# Altium footprint library IC-Packages.PcbLib: 8 footprints
Each footprint in its own frame and in the unit in brackets; x right, y up, seen from the top. Pads: shape width x height; smd on the part's side, far side on the other; paste and mask are expansions set on the pad; w line width, h text height; cw(c..) or ccw(c..) is an arc to the next point about the centre after c.
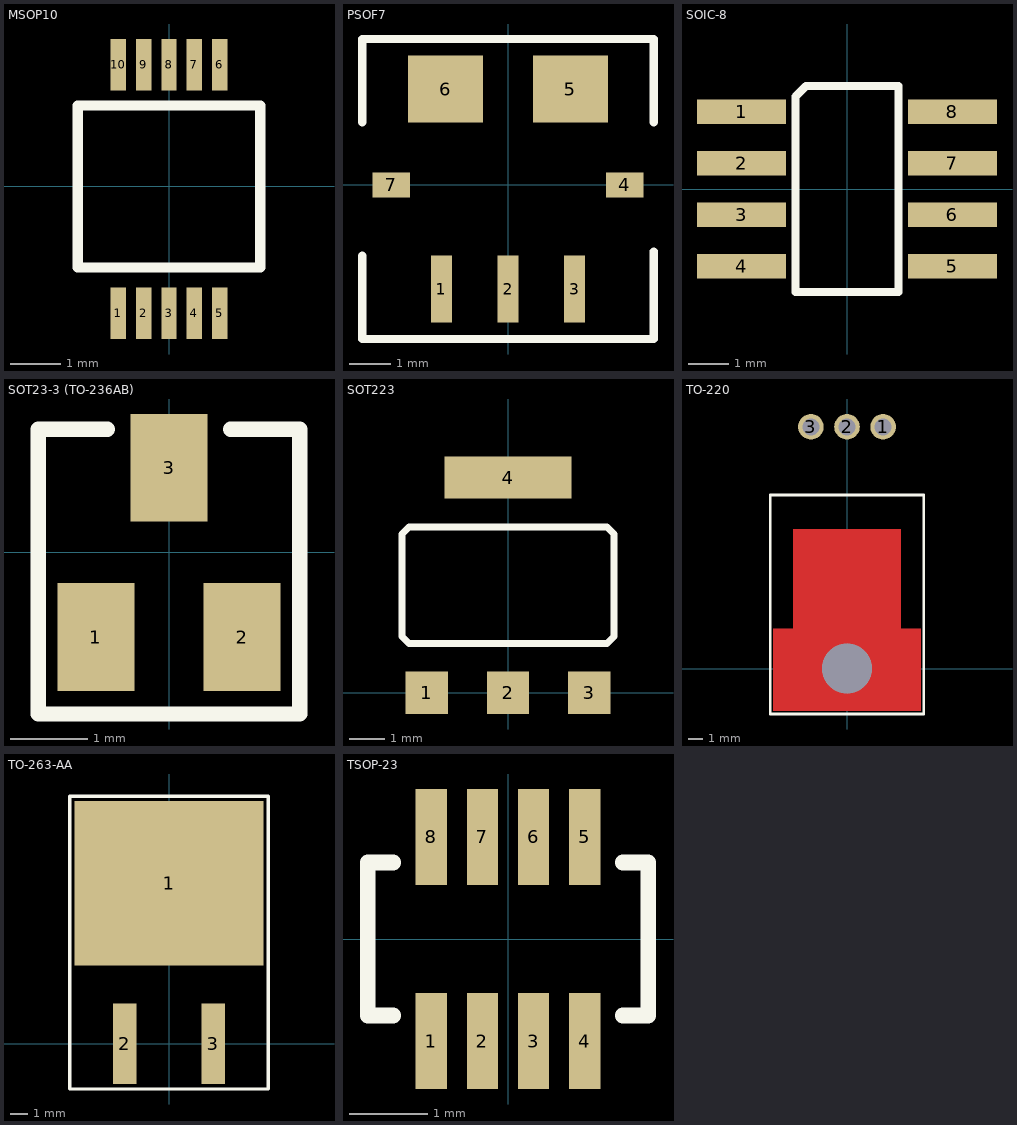
[diagram p0: the footprints below, top view; thin cyan lines are the x and y axes]

## MSOP10 [mm] "MSOP 10 Pin Package"
pads (10):
  rect 0.3x1.02 smd: 1(-1,-2.5) 2(-0.5,-2.5) 3(0,-2.5) 4(0.5,-2.5) 5(1,-2.5) 6(1,2.4) 7(0.5,2.4) 8(0,2.4) 9(-0.5,2.4) 10(-1,2.4)
Top Overlay:
  lines w0.2: -1.8,-1.6 1.8,-1.6 1.8,1.6 -1.8,1.6 -1.8,-1.6
  text "." at -1.4,-1.2 h1.52
3D body "MSOP10.stp": height 1.05, standoff 0, extent -1.55,-2.525 1.55,2.525

## PSOF7 [mm] "7-Pin PSOF Package"
pads (7):
  rect 0.5x1.6 smd: 1(-1.6,-2.5) 2(0,-2.5) 3(1.6,-2.5)
  rect 0.9x0.6 smd: 4(2.8,0) 7(-2.8,0)
  rect 1.8x1.6 smd: 5(1.5,2.3) 6(-1.5,2.3)
Top Overlay:
  lines w0.2: -3.5,-1.7 -3.5,-3.7 3.5,-3.7 3.5,-1.6 ; -3.5,1.5 -3.5,3.5 3.5,3.5 3.5,1.5
3D body: height 1.5, standoff 0, extent -3.2,-2.4 3.2,2.4

## SOIC-8 [mm] "SOIC-8 Package"
pads (8):
  rect 2.2x0.6 smd: 1(-2.6,1.905) 2(-2.6,0.635) 3(-2.6,-0.635) 4(-2.6,-1.905) 5(2.6,-1.905) 6(2.6,-0.635) 7(2.6,0.635) 8(2.6,1.905)
Top Overlay:
  lines w0.2: -1.27,-2.54 -1.27,2.286 -1.016,2.54 1.27,2.54 1.27,-2.54 -1.27,-2.54
  text "." at -0.889,2.032 h1
3D body "Package, SOIC-8, 3.9mm.STEP": height 1.5, standoff 0, extent -3,-2.45 3,2.45

## SOT23-3 (TO-236AB) [mm] "SOT23 3 Pin"
pads (3):
  rect 1x1.4 smd: 1(-0.95,-1.1) 2(0.95,-1.1) 3(0,1.1)
Top Overlay:
  lines w0.2: -0.8,1.6 -1.7,1.6 -1.7,-2.1 1.7,-2.1 1.7,1.6 0.8,1.6
3D body "SOT23-3.stp": height 1.2, standoff 0.02, extent -1.5,-1.418 1.5,1.418

## SOT223 [mm] "Package"
pads (4):
  rect 1.2x1.2 smd: 1(-2.3,0) 2(0,0) 3(2.3,0)
  rect 3.6x1.2 smd: 4(0,6.1)
Top Overlay:
  lines w0.2: -3,1.6 -2.8,1.4 2.8,1.4 3,1.6 3,4.5 2.8,4.7 -2.8,4.7 -3,4.5 -3,1.6
3D body "SOT223-3.step": height 1.6, standoff 0, extent -3.25,-0.5 3.25,6.574

## TO-220 [mm] "TO-220 Package"
pads (4):
  round 1.8 hole 1.2: 1(2.54,17) 2(0,17) 3(-2.54,17)
  round 3.5 hole 3.5 unplated: ""(0,0)
Top Layer:
  rectangle: -3.8,2.8 3.8,9.8
  rectangle: -5.2,-3 5.2,2.8
Top Overlay:
  lines w0.2: -5.4,-3.2 5.4,-3.2 5.4,12.2 -5.4,12.2 -5.4,-3.2
3D body "TO-220_horizontal_line.stp": height 4.65, standoff -3, extent -5.25,-3 5.25,17.25

## TO-263-AA [mm] "TO-263-AA Package"
pads (3):
  rect 10.8x9.4 smd: 1(0,9.15)
  rect 1.35x4.6 smd: 2(-2.54,0) 3(2.54,0)
Top Overlay:
  lines w0.2: -5.687,-2.6 5.687,-2.6 5.687,14.138 -5.687,14.138 -5.687,-2.6
3D body "TO263-3-2.stp": height 4.22, standoff 0, extent -4.911,-0.773 4.911,13.829

## TSOP-23 [mm] "TSOP-23 8 Pin Package"
pads (8):
  rect 0.4x1.22 smd: 1(-0.975,-1.3) 2(-0.325,-1.3) 3(0.325,-1.3) 4(0.975,-1.3) 5(0.975,1.3) 6(0.325,1.3) 7(-0.325,1.3) 8(-0.975,1.3)
Top Overlay:
  lines w0.2: -1.462,-0.975 -1.787,-0.975 -1.787,0.975 -1.462,0.975 ; 1.462,-0.975 1.787,-0.975 1.787,0.975 1.462,0.975
  text "." at -1.462,-0.325 h1
3D body "MO-193BA.stp": height 1.1, standoff 0, extent -1.5,-1.5 1.5,1.5